# Altium schematic symbol library HPZR-C12X.SchLib: 1 symbol
Pins are listed as number, name and electrical type; pins without a type are passive.

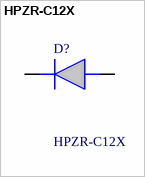
[diagram p0: symbol HPZR-C12X]

## HPZR-C12X
designator D?
vp_HPZR_SER - High power voltage regulator diodes@en-us; Manufacturer_Name: Nexperia; Geometry.Height: 1.1mm; Mouser Part Number: 771-HPZR-C12X; Mouser Price/Stock: https://www.mouser.co.uk/ProductDetail/Nexperia/HPZR-C12X?qs=By6Nw2ByBD3M7GC3ehNB2A%3D%3D; Manufacturer_Part_Number: HPZR-C12X; Datasheet Link: https://assets.nexperia.com/documents/data-sheet/HPZR_SER.pdf
footprint HPZRC12X
pins: 1 K, 2 A